# Altium schematic symbol library 2004LCDBoardSchLib.SchLib: 2 symbols
Pins are listed as number, name and electrical type; pins without a type are passive.

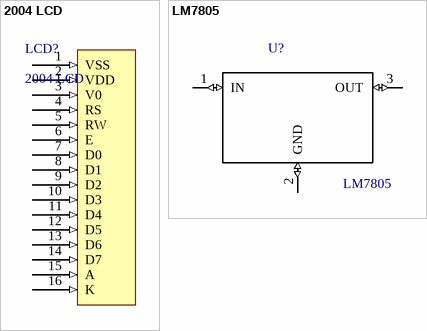
[diagram p0: symbols 2004 LCD to LM7805]

## 2004 LCD
designator LCD?
pins: 1 VSS (in), 2 VDD (in), 3 V0 (in), 4 RS (in), 5 RW (in), 6 E (in), 7 D0 (in), 8 D1 (in), 9 D2 (in), 10 D3 (in), 11 D4 (in), 12 D5 (in), 13 D6 (in), 14 D7 (in), 15 A (in), 16 K (in)

## LM7805
designator U?
Power Management, Linear Regulators, Semiconductors and Actives; MF: Fairchild Semiconductor; Price: None; Availability: Unavailable; SnapEDA_Link: https://www.snapeda.com/parts/LM7805/Fairchild%20Semiconductor/view-part/?ref=snap; MP: LM7805; Package: None; Value: *
footprint *TO220
pins: 1 IN (io), 2 GND (io), 3 OUT (io)